# Altium footprint library SM_DIODE_SOD-123F.PcbLib: 1 footprints
Each footprint in its own frame and in the unit in brackets; x right, y up, seen from the top. Pads: shape width x height; smd on the part's side, far side on the other; paste and mask are expansions set on the pad; w line width, h text height; cw(c..) or ccw(c..) is an arc to the next point about the centre after c.
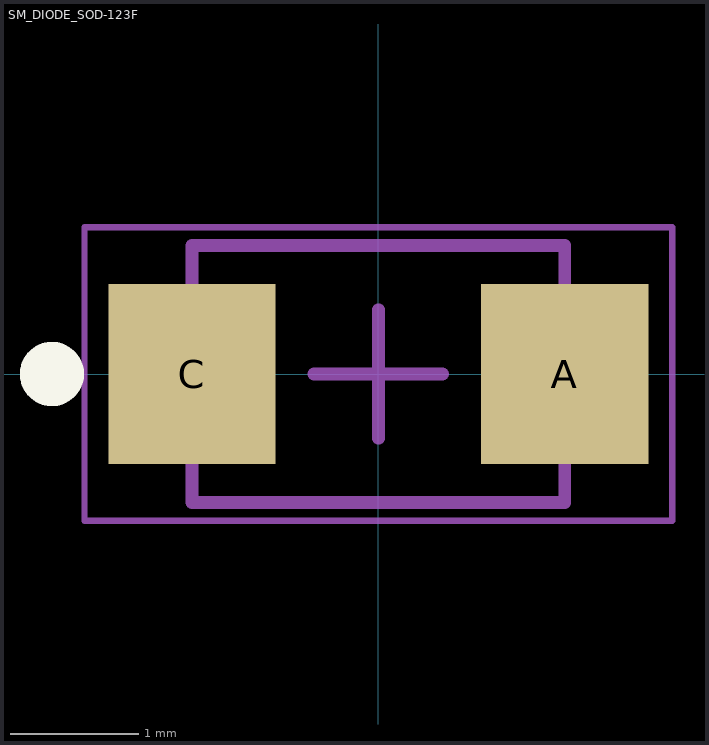
[diagram p0: the footprint, top view; thin cyan lines are the x and y axes]

## SM_DIODE_SOD-123F [mm] "SOD Flat, 2-Leads, Body 2.9x2mm"
height 1.1
pads (2):
  rect 1.3x1.4 smd: A(1.45,0) C(-1.45,0)
Top Overlay:
  circle w0.25: c-2.54,0 r0.125
Mechanical 13:
  lines w0.1: -1.45,-1 -1.45,1 1.45,1 1.45,-1 -1.45,-1
Mechanical 15:
  lines w0.05: -2.286,-1.143 -2.286,1.143 2.286,1.143 2.286,-1.143 -2.286,-1.143
  lines w0.1: -0.5,0 0.5,0 ; 0,-0.5 0,0.5
3D body: height 1.1, standoff 0, extent -1.45,-1 1.45,1